# Altium footprint library thermometer_lib.PcbLib: 7 footprints
Each footprint in its own frame and in the unit in brackets; x right, y up, seen from the top. Pads: shape width x height; smd on the part's side, far side on the other; paste and mask are expansions set on the pad; w line width, h text height; cw(c..) or ccw(c..) is an arc to the next point about the centre after c.
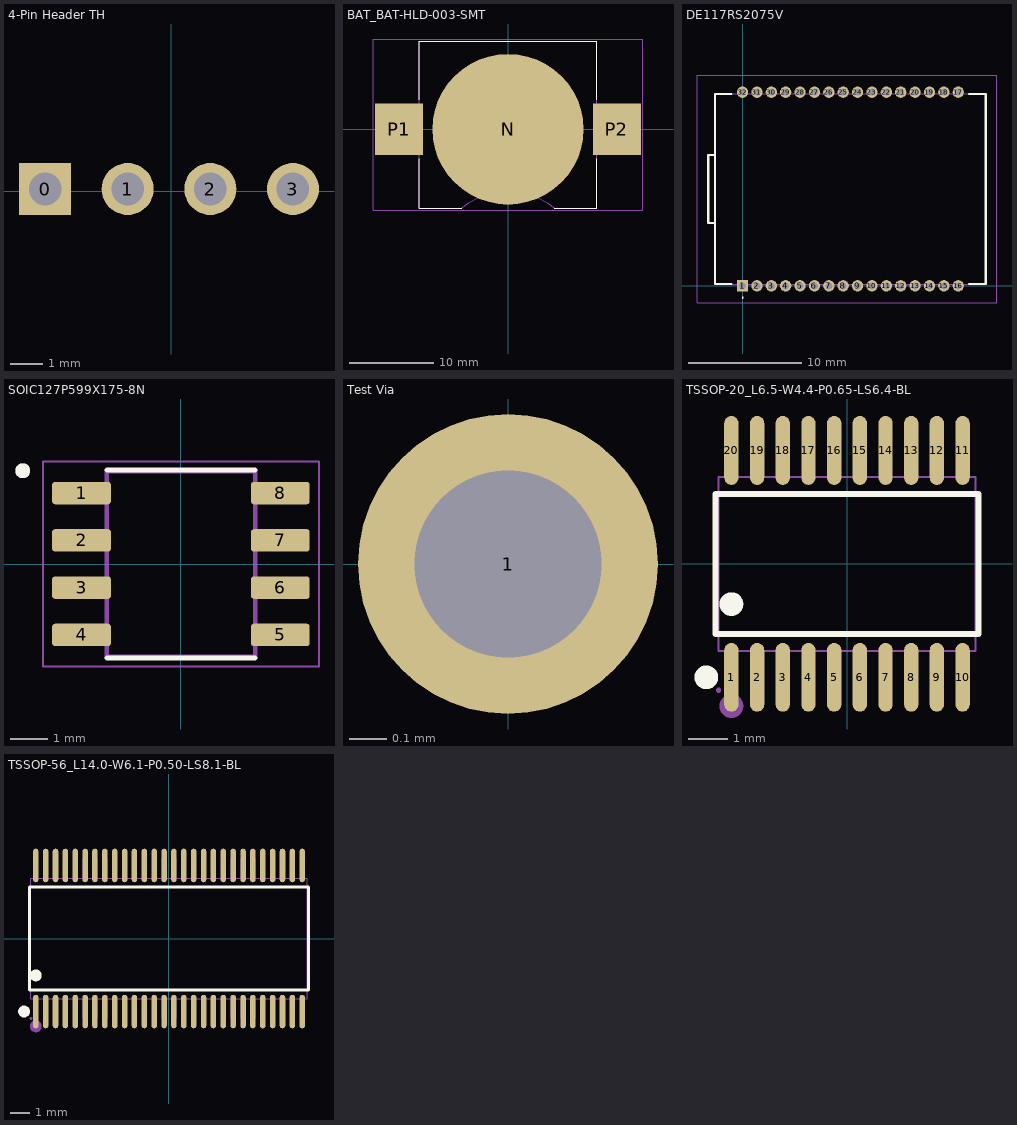
[diagram p0: the footprints below, top view; thin cyan lines are the x and y axes]

## 4-Pin Header TH [mm] "A Throughole 4 Pin Header"
pads (4):
  rect 1.6x1.6 hole 1: 0(-3.873,0.064)
  round 1.6 hole 1: 1(-1.333,0.064) 2(1.206,0.064) 3(3.746,0.064)

## BAT_BAT-HLD-003-SMT [mm]
pads (3):
  round 17.9 smd paste-10: N(0,0)
  rect 5.7x6.1 smd: P1(-12.9,0) P2(12.9,0)
Top Overlay:
  lines w0.127: -10.55,-3.5 -10.55,-9.35 -5.5,-9.35 ; -10.55,3.5 -10.55,10.45 10.55,10.45 10.55,3.5 ; 5.5,-9.35 10.55,-9.35 10.55,-3.5
Mechanical 13:
  lines w0.127: -5.5,-9.35 -10.55,-9.35 -10.55,10.45 10.55,10.45 10.55,-9.35 5.5,-9.35 ; -5.495,-9.346 cw(c0,-16.131) 0,-7.4 cw(c0,-16.131) 5.495,-9.346
Mechanical 15:
  lines w0.05: -16,-9.6 16,-9.6 16,10.7 -16,10.7 -16,-9.6
3D body "step_temp.STEP": height 3.9, standoff 0, extent -15.25,-9.35 15.25,10.45

## DE117RS2075V [mm]
pads (32):
  rect 1x1 hole 0.62: 1(0,0)
  round 1 hole 0.62: 2(1.27,0) 3(2.54,0) 4(3.81,0) 5(5.08,0) 6(6.35,0) 7(7.62,0) 8(8.89,0) 9(10.16,0) 10(11.43,0) 11(12.7,0) 12(13.97,0) 13(15.24,0) 14(16.51,0) 15(17.78,0) 16(19.05,0) 17(19.05,17.1) 18(17.78,17.1) 19(16.51,17.1) 20(15.24,17.1) 21(13.97,17.1) 22(12.7,17.1) 23(11.43,17.1) 24(10.16,17.1) 25(8.89,17.1) 26(7.62,17.1) 27(6.35,17.1) 28(5.08,17.1) 29(3.81,17.1) 30(2.54,17.1) 31(1.27,17.1) 32(0,17.1)
Top Overlay:
  lines w0.1: 0,-1.1 ccw(c0,-1.05) 0,-1 ccw(c0,-1.05) 0,-1.1
  lines w0.2: -2.425,5.55 -3.025,5.55 -3.025,11.55 -2.425,11.55 ; -1,0.15 -2.425,0.15 -2.425,16.95 -1,16.95 ; 20,0.15 21.475,0.15 21.475,16.95 20,16.95
Mechanical 15:
  lines w0.1: -2.425,5.55 -3.025,5.55 -3.025,11.55 -2.425,11.55 ; -2.425,0.15 21.475,0.15 21.475,16.95 -2.425,16.95 -2.425,0.15
Mechanical 20:
  lines w0.1: -4.025,-1.5 22.475,-1.5 22.475,18.6 -4.025,18.6 -4.025,-1.5

## SOIC127P599X175-8N [mm]
pads (8):
  rrect25% 1.58x0.6 smd: 1(-2.67,1.905) 2(-2.67,0.635) 3(-2.67,-0.635) 4(-2.67,-1.905) 5(2.67,-1.905) 6(2.67,-0.635) 7(2.67,0.635) 8(2.67,1.905)
Top Overlay:
  circle w0.2: c-4.25,2.505 r0.1
  lines w0.127: -1.995,-2.525 1.995,-2.525 ; -1.995,2.525 1.995,2.525
Mechanical 13:
  circle w0.2: c-4.25,2.505 r0.1
  lines w0.127: -1.995,-2.5 -1.995,2.5 1.995,2.5 1.995,-2.5 -1.995,-2.5
Mechanical 15:
  lines w0.05: -3.71,-2.75 -3.71,2.75 3.71,2.75 3.71,-2.75 -3.71,-2.75

## Test Via [mm] "A test via hole"
pads (1):
  round 0.8 hole 0.5: 1(0,0)

## TSSOP-20_L6.5-W4.4-P0.65-LS6.4-BL [mm]
pads (20):
  oval 0.364x1.742 smd paste+0 mask+0.051: 1(-2.925,-2.871) 2(-2.275,-2.871) 3(-1.625,-2.871) 4(-0.975,-2.871) 5(-0.325,-2.871) 6(0.325,-2.871) 7(0.975,-2.871) 8(1.625,-2.871) 9(2.275,-2.871) 10(2.925,-2.871) 11(2.925,2.871) 12(2.275,2.871) 13(1.625,2.871) 14(0.975,2.871) 15(0.325,2.871) 16(-0.325,2.871) 17(-0.975,2.871) 18(-1.625,2.871) 19(-2.275,2.871) 20(-2.925,2.871)
Top Overlay:
  circle w0.3: c-3.559,-2.871 r0.15
  circle w0.3: c-2.925,-1.019 r0.15
  lines w0.152: -3.326,-1.771 3.326,-1.771 3.326,1.771 -3.326,1.771 -3.326,-1.771
Mechanical 6:
  circle w0.3: c-2.925,-3.6 r0.15
Mechanical 15:
  drawing of 45 lines, arcs and shapes, not listed
3D body "STM32C011F6P6--3DModel-STEP-510211.STEP": height 1.2, standoff 0, extent -3.25,-3.2 3.25,3.2

## TSSOP-56_L14.0-W6.1-P0.50-LS8.1-BL [mm]
pads (56):
  oval 0.28x1.7 smd paste+0 mask+0.051: 1(-6.75,-3.7) 2(-6.25,-3.7) 3(-5.75,-3.7) 4(-5.25,-3.7) 5(-4.75,-3.7) 6(-4.25,-3.7) 7(-3.75,-3.7) 8(-3.25,-3.7) 9(-2.75,-3.7) 10(-2.25,-3.7) 11(-1.75,-3.7) 12(-1.25,-3.7) 13(-0.75,-3.7) 14(-0.25,-3.7) 15(0.25,-3.7) 16(0.75,-3.7) 17(1.25,-3.7) 18(1.75,-3.7) 19(2.25,-3.7) 20(2.75,-3.7) 21(3.25,-3.7) 22(3.75,-3.7) 23(4.25,-3.7) 24(4.75,-3.7) 25(5.25,-3.7) 26(5.75,-3.7) 27(6.25,-3.7) 28(6.75,-3.7) 29(6.75,3.7) 30(6.25,3.7) 31(5.75,3.7) 32(5.25,3.7) 33(4.75,3.7) 34(4.25,3.7) 35(3.75,3.7) 36(3.25,3.7) 37(2.75,3.7) 38(2.25,3.7) 39(1.75,3.7) 40(1.25,3.7) 41(0.75,3.7) 42(0.25,3.7) 43(-0.25,3.7) 44(-0.75,3.7) 45(-1.25,3.7) 46(-1.75,3.7) 47(-2.25,3.7) 48(-2.75,3.7) 49(-3.25,3.7) 50(-3.75,3.7) 51(-4.25,3.7) 52(-4.75,3.7) 53(-5.25,3.7) 54(-5.75,3.7) 55(-6.25,3.7) 56(-6.75,3.7)
Top Overlay:
  circle w0.3: c-6.75,-1.869 r0.15
  circle w0.3: c-7.342,-3.7 r0.15
  lines w0.152: -7.076,-2.621 -7.076,2.621 7.076,2.621 7.076,-2.621 -7.076,-2.621
Mechanical 6:
  circle w0.3: c-6.75,-4.45 r0.15
Mechanical 15:
  drawing of 117 lines, arcs and shapes, not listed